# EAGLE library part PA78 (library noah)
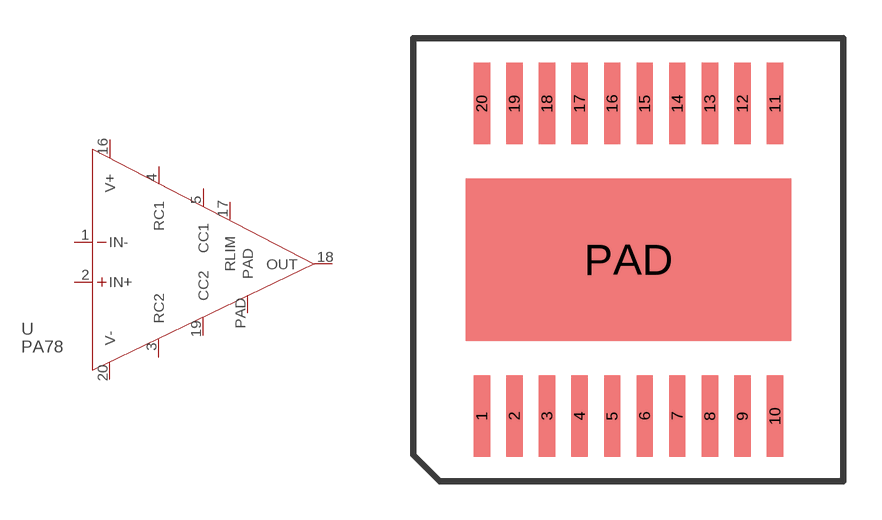
[diagram p32: symbol with the pads of PSOP-20; footprint PSOP-20]

Designator prefix U

## PA78  [PSOP-20]
1  IN-  in
2  IN+  in
3  RC2  in
4  RC1  in
5  CC1  in
16  V+  in
17  RLIM  in
18  OUT  in
19  CC2  in
20  V-  in
PAD  PAD  in

## Footprint PSOP-20 (pad centres in mm)
smd 0.635 x 3.175: 1 -5.715,-6.096; 2 -4.445,-6.096; 3 -3.175,-6.096; 4 -1.905,-6.096; 5 -0.635,-6.096; 6 0.635,-6.096; 7 1.905,-6.096; 8 3.175,-6.096; 9 4.445,-6.096; 10 5.715,-6.096; 11 5.715,6.096; 12 4.445,6.096; 13 3.175,6.096; 14 1.905,6.096; 15 0.635,6.096; 16 -0.635,6.096; 17 -1.905,6.096; 18 -3.175,6.096; 19 -4.445,6.096; 20 -5.715,6.096
smd 12.7 x 6.35: PAD 0,0